# Altium footprint library dip_switch_01_452x930x545.PcbLib: 1 footprints
Each footprint in its own frame and in the unit in brackets; x right, y up, seen from the top. Pads: shape width x height; smd on the part's side, far side on the other; paste and mask are expansions set on the pad; w line width, h text height; cw(c..) or ccw(c..) is an arc to the next point about the centre after c.
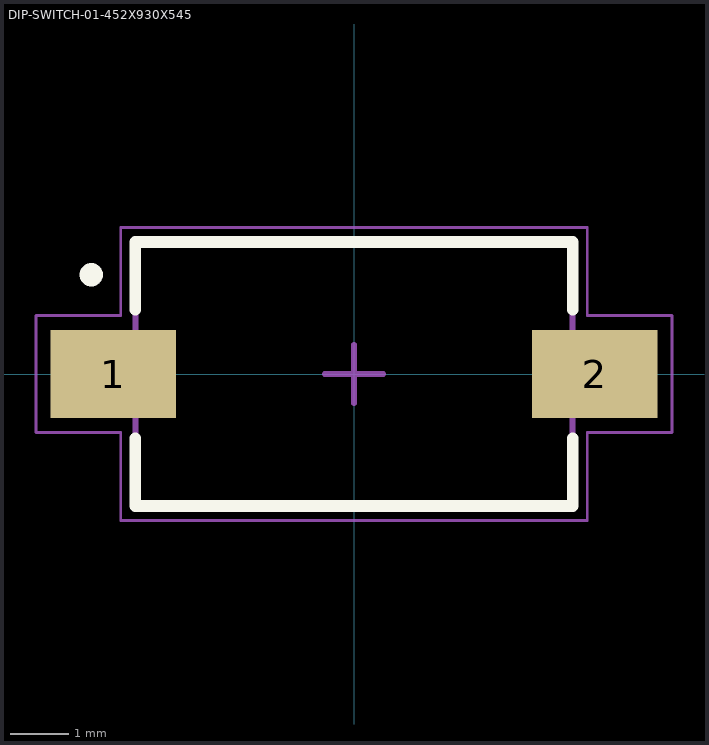
[diagram p0: the footprint, top view; thin cyan lines are the x and y axes]

## DIP-SWITCH-01-452X930X545 [mm]
height 5.45
pads (2):
  rect 2.15x1.5 smd: 1(-4.125,0) 2(4.125,0)
Top Overlay:
  circle w0.2: c-4.5,1.7 r0.1
  lines w0.2: -3.745,-1.1 -3.745,-2.26 3.745,-2.26 3.745,-1.1 ; -3.745,1.1 -3.745,2.26 3.745,2.26 3.745,1.1
Top Comment:
  text ".Comment" at 1.3,2.8 h1.2
Top Designator:
  text ".Designator" at -0.7,2.8 h1.2
Top Component Outline:
  lines w0.1: -3.745,-2.26 3.745,-2.26 3.745,2.26 -3.745,2.26 -3.745,-2.26
Top Courtyard (Mech15):
  lines w0.05: -5.45,-1 -5.45,1 -3.995,1 -3.995,2.51 3.995,2.51 3.995,1 5.45,1 5.45,-1 3.995,-1 3.995,-2.51 -3.995,-2.51 -3.995,-1 -5.45,-1
  lines w0.1: -0.5,0 0.5,0 ; 0,-0.5 0,0.5
3D body "step_temp.STEP": height 5.44, standoff 0, extent -4.648,-2.26 4.648,2.261